# EAGLE library part IP4254CZ12-6-TTL (library NXP_By_element14_Batch_1)
Integrated 6- channel passive filter network with ESD protection
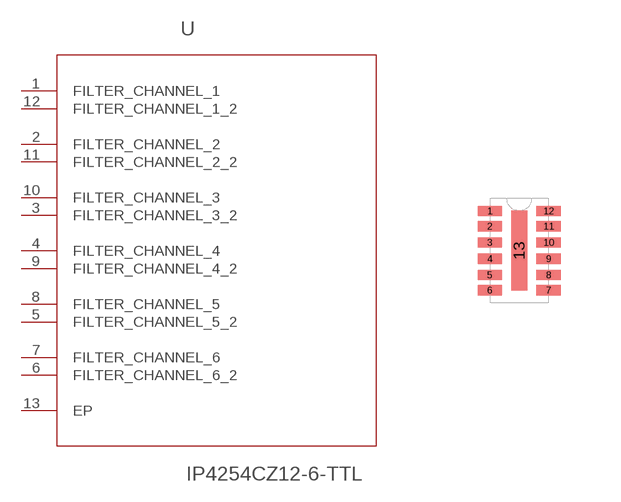
[diagram p297: symbol with the pads of SON40P135X250X55-13N; footprint SON40P135X250X55-13N]

Designator prefix U

## IP4254CZ12-6-TTL (MPN: IP4254CZ12-6-TTL; OC_FARNELL: 1972693; OC_NEWARK: 58T9588; PACKAGE: HUSON-12; SUPPLIER: NXP)  [SON40P135X250X55-13N]
1  FILTER_CHANNEL_1  pas
2  FILTER_CHANNEL_2  pas
3  FILTER_CHANNEL_3_2  pas
4  FILTER_CHANNEL_4  pas
5  FILTER_CHANNEL_5_2  pas
6  FILTER_CHANNEL_6_2  pas
7  FILTER_CHANNEL_6  pas
8  FILTER_CHANNEL_5  pas
9  FILTER_CHANNEL_4_2  pas
10  FILTER_CHANNEL_3  pas
11  FILTER_CHANNEL_2_2  pas
12  FILTER_CHANNEL_1_2  pas
13  EP  pas

## Footprint SON40P135X250X55-13N (pad centres in mm)
smd 0.61 x 0.254: 1 -0.737,0.991; 2 -0.737,0.61; 3 -0.737,0.203; 4 -0.737,-0.203; 5 -0.737,-0.61; 6 -0.737,-0.991; 7 0.737,-0.991; 8 0.737,-0.61; 9 0.737,-0.203; 10 0.737,0.203; 11 0.737,0.61; 12 0.737,0.991
smd 0.406 x 2.007: 13 0,0